# Altium footprint library con-phoenix-smkdsp.PCBLIB: 14 footprints
Each footprint in its own frame and in the unit in brackets; x right, y up, seen from the top. Pads: shape width x height; smd on the part's side, far side on the other; paste and mask are expansions set on the pad; w line width, h text height; cw(c..) or ccw(c..) is an arc to the next point about the centre after c.
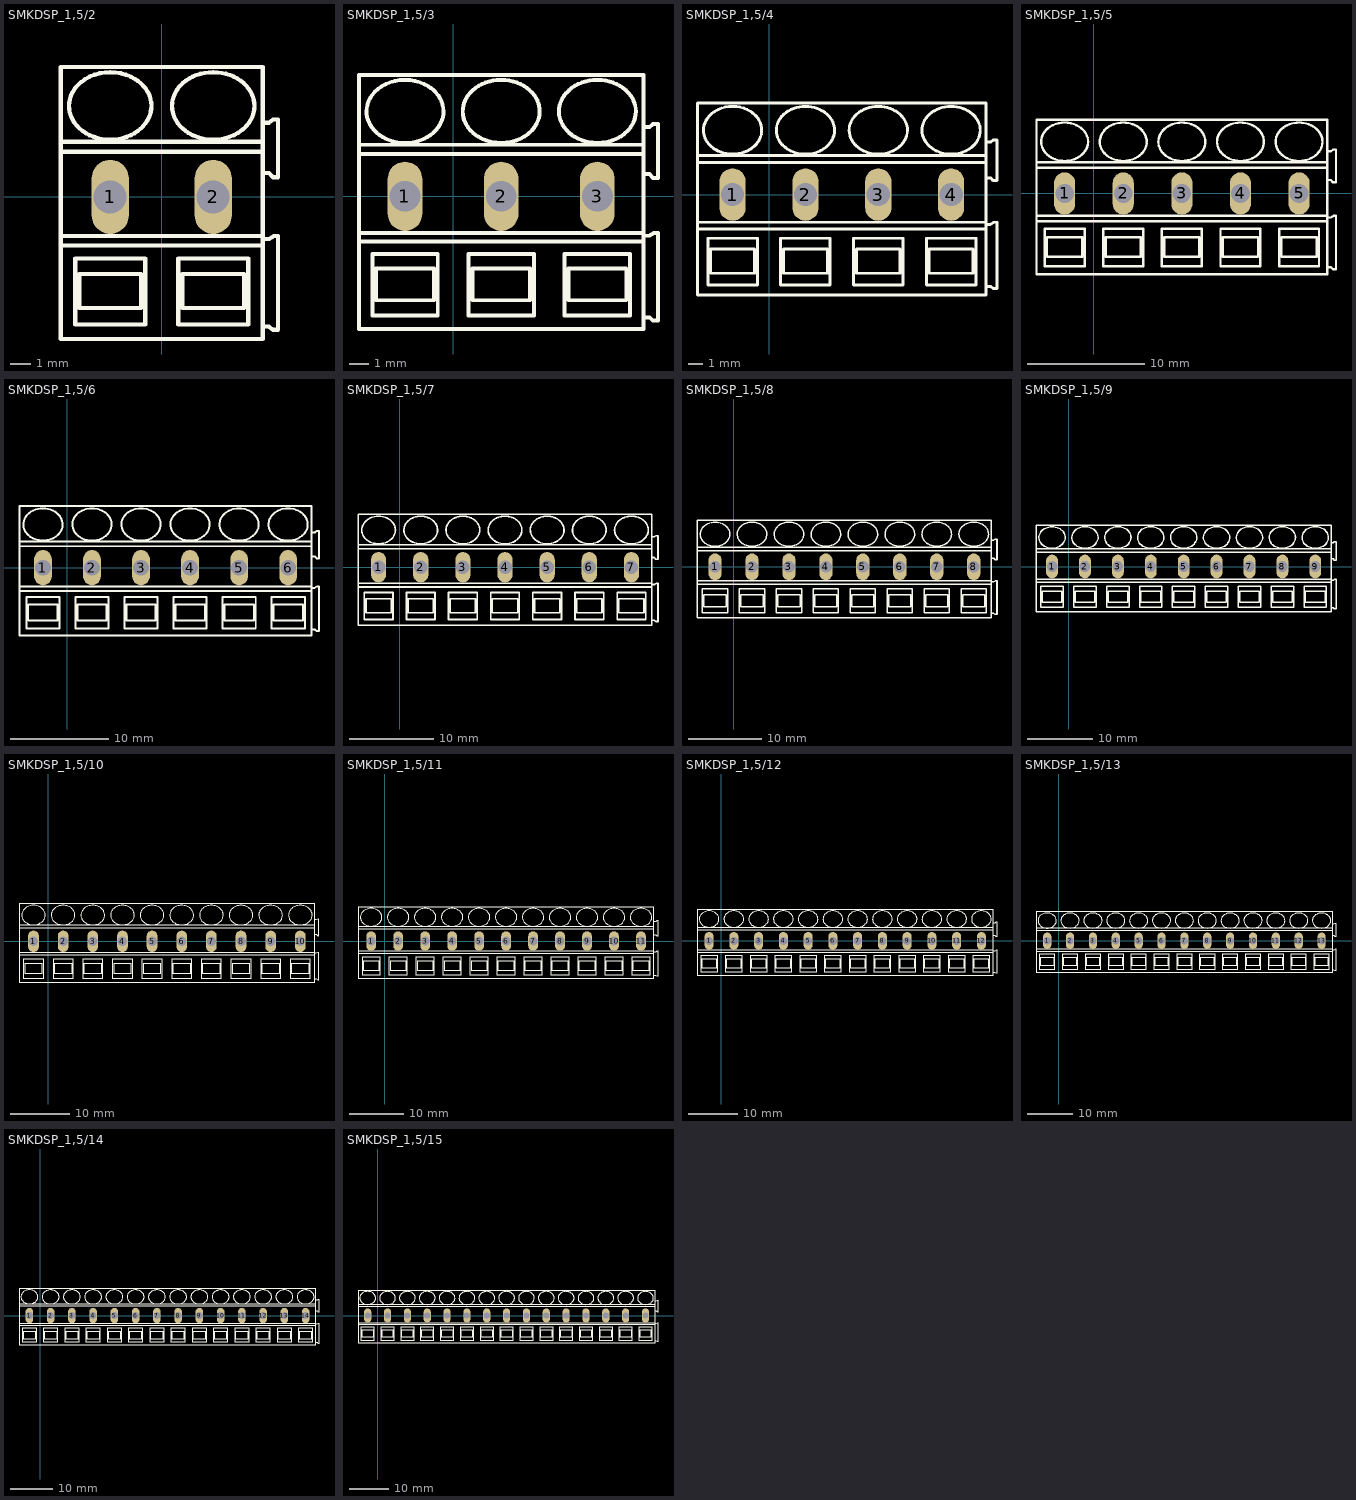
[diagram p0: the footprints below, top view; thin cyan lines are the x and y axes]

## SMKDSP_1,5/2 [mm]
pads (2):
  oval 1.8x3.6 hole 1.6: 1(-2.5,0) 2(2.5,0)
Top Overlay:
  lines w0.203: 5,-6.3 5.2,-6.3 5.4,-6.45 5.65,-6.45 5.65,-1.9 5.45,-1.9 5.2,-2.05 5,-2.05 ; 5,1.15 5.2,1.15 5.4,0.95 5.65,0.95 5.65,3.75 5.4,3.75 5.2,3.6 5,3.6 ; -4.9,-2.354 4.9,-2.354 ; -4.9,-2.354 -4.9,-1.902 ; -4.9,-2.354 -4.9,-6.9 4.9,-6.9 4.9,-2.354 ; -4.9,-1.902 4.9,-1.902 ; -4.9,-1.902 -4.9,2.192 ; -4.9,2.192 4.9,2.192 ; -4.9,2.192 -4.9,2.678 ; -4.9,2.678 4.9,2.678 ; -4.9,2.678 -4.9,6.3 4.9,6.3 4.9,2.678 ; 4.9,-2.354 4.9,-1.902 ; 4.9,-1.902 4.9,2.192 ; 4.9,2.192 4.9,2.678 ; -4.5,4.414 cw(c-3.14,4.411) -4.456,4.754 cw(c-3.05,4.385) -4.327,5.079 cw(c-2.735,4.176) -4.086,5.411 cw(c-2.711,4.108) -3.718,5.713 cw(c-2.568,3.869) -3.265,5.927 cw(c-2.506,3.674) -2.761,6.038 cw(c-2.5,3.609) -2.239,6.038 cw(c-2.488,3.699) -1.735,5.927 cw(c-2.413,3.909) -1.282,5.713 cw(c-2.258,4.146) -0.914,5.411 cw(c-1.944,4.409) -0.673,5.079 cw(c-1.929,4.394) -0.544,4.754 cw(c-1.859,4.413) -0.5,4.414 cw(c-1.853,4.414) -0.531,4.129 cw(c-1.918,4.43) -0.621,3.854 cw(c-2.027,4.481) -0.768,3.594 cw(c-2.167,4.588) -1.014,3.317 cw(c-2.318,4.762) -1.324,3.088 cw(c-2.428,4.953) -1.687,2.917 cw(c-2.485,5.115) -2.084,2.811 cw(c-2.5,5.215) -2.5,2.775 cw(c-2.501,5.195) -2.916,2.811 cw(c-2.52,5.095) -3.313,2.917 cw(c-2.587,4.921) -3.676,3.088 cw(c-2.706,4.728) -3.986,3.317 cw(c-2.854,4.569) -4.232,3.594 cw(c-2.999,4.469) -4.379,3.854 cw(c-3.096,4.426) -4.469,4.129 cw(c-3.147,4.416) -4.5,4.414 ; -4.2,-6.2 -0.8,-6.2 -0.8,-3 -4.2,-3 -4.2,-6.2 ; -4,-5.4 -1,-5.4 -1,-3.75 -4,-3.75 -4,-5.4 ; 0.5,4.414 cw(c1.854,4.413) 0.531,4.698 cw(c1.918,4.397) 0.621,4.974 cw(c2.026,4.346) 0.768,5.233 cw(c2.167,4.239) 1.014,5.51 cw(c2.318,4.065) 1.324,5.739 cw(c2.428,3.874) 1.687,5.91 cw(c2.485,3.712) 2.084,6.016 cw(c2.5,3.61) 2.5,6.052 cw(c2.501,3.631) 2.916,6.016 cw(c2.52,3.732) 3.313,5.91 cw(c2.587,3.906) 3.676,5.739 cw(c2.706,4.099) 3.986,5.51 cw(c2.854,4.258) 4.232,5.233 cw(c2.999,4.36) 4.379,4.974 cw(c3.096,4.402) 4.469,4.698 cw(c3.145,4.411) 4.5,4.414 cw(c3.14,4.416) 4.456,4.073 cw(c3.049,4.442) 4.327,3.748 cw(c2.734,4.652) 4.086,3.416 cw(c2.711,4.718) 3.718,3.114 cw(c2.57,4.958) 3.265,2.9 cw(c2.506,5.154) 2.761,2.789 cw(c2.5,5.218) 2.239,2.789 cw(c2.488,5.128) 1.735,2.9 cw(c2.412,4.919) 1.282,3.114 cw(c2.258,4.681) 0.914,3.416 cw(c1.945,4.418) 0.673,3.748 cw(c1.93,4.433) 0.544,4.073 cw(c1.858,4.414) 0.5,4.414 ; 0.8,-6.2 4.2,-6.2 4.2,-3 0.8,-3 0.8,-6.2 ; 1,-5.4 1,-5.15 1,-3.75 4,-3.75 4,-5.4 1,-5.4

## SMKDSP_1,5/3 [mm]
pads (3):
  oval 1.8x3.6 hole 1.6: 1(-2.5,0) 2(2.5,0) 3(7.5,0)
Top Overlay:
  lines w0.203: 10,-6.3 10.2,-6.3 10.4,-6.45 10.65,-6.45 10.65,-1.9 10.45,-1.9 10.2,-2.05 10,-2.05 ; 10,1.15 10.2,1.15 10.4,0.95 10.65,0.95 10.65,3.75 10.4,3.75 10.2,3.6 10,3.6 ; -4.9,-2.354 9.9,-2.354 ; -4.9,-2.354 -4.9,-1.902 ; -4.9,-2.354 -4.9,-6.9 9.9,-6.9 9.9,-2.354 ; -4.9,-1.902 9.9,-1.902 ; -4.9,-1.902 -4.9,2.192 ; -4.9,2.192 9.9,2.192 ; -4.9,2.192 -4.9,2.678 ; -4.9,2.678 9.9,2.678 ; -4.9,2.678 -4.9,6.3 9.9,6.3 9.9,2.678 ; 9.9,-2.354 9.9,-1.902 ; 9.9,-1.902 9.9,2.192 ; 9.9,2.192 9.9,2.678 ; -4.5,4.414 cw(c-3.14,4.411) -4.456,4.754 cw(c-3.05,4.385) -4.327,5.079 cw(c-2.735,4.176) -4.086,5.411 cw(c-2.711,4.108) -3.718,5.713 cw(c-2.568,3.869) -3.265,5.927 cw(c-2.506,3.674) -2.761,6.038 cw(c-2.5,3.609) -2.239,6.038 cw(c-2.488,3.699) -1.735,5.927 cw(c-2.413,3.909) -1.282,5.713 cw(c-2.258,4.146) -0.914,5.411 cw(c-1.944,4.409) -0.673,5.079 cw(c-1.929,4.394) -0.544,4.754 cw(c-1.859,4.413) -0.5,4.414 cw(c-1.853,4.414) -0.531,4.129 cw(c-1.918,4.43) -0.621,3.854 cw(c-2.027,4.481) -0.768,3.594 cw(c-2.167,4.588) -1.014,3.317 cw(c-2.318,4.762) -1.324,3.088 cw(c-2.428,4.953) -1.687,2.917 cw(c-2.485,5.115) -2.084,2.811 cw(c-2.5,5.215) -2.5,2.775 cw(c-2.501,5.195) -2.916,2.811 cw(c-2.52,5.095) -3.313,2.917 cw(c-2.587,4.921) -3.676,3.088 cw(c-2.706,4.728) -3.986,3.317 cw(c-2.854,4.569) -4.232,3.594 cw(c-2.999,4.469) -4.379,3.854 cw(c-3.096,4.426) -4.469,4.129 cw(c-3.147,4.416) -4.5,4.414 ; -4.2,-6.2 -0.8,-6.2 -0.8,-3 -4.2,-3 -4.2,-6.2 ; -4,-5.4 -1,-5.4 -1,-3.75 -4,-3.75 -4,-5.4 ; 0.5,4.414 cw(c1.854,4.413) 0.531,4.698 cw(c1.918,4.397) 0.621,4.974 cw(c2.026,4.346) 0.768,5.233 cw(c2.167,4.239) 1.014,5.51 cw(c2.318,4.065) 1.324,5.739 cw(c2.428,3.874) 1.687,5.91 cw(c2.485,3.712) 2.084,6.016 cw(c2.5,3.61) 2.5,6.052 cw(c2.501,3.631) 2.916,6.016 cw(c2.52,3.732) 3.313,5.91 cw(c2.587,3.906) 3.676,5.739 cw(c2.706,4.099) 3.986,5.51 cw(c2.854,4.258) 4.232,5.233 cw(c2.999,4.36) 4.379,4.974 cw(c3.096,4.402) 4.469,4.698 cw(c3.145,4.411) 4.5,4.414 cw(c3.14,4.416) 4.456,4.073 cw(c3.049,4.442) 4.327,3.748 cw(c2.734,4.652) 4.086,3.416 cw(c2.711,4.718) 3.718,3.114 cw(c2.57,4.958) 3.265,2.9 cw(c2.506,5.154) 2.761,2.789 cw(c2.5,5.218) 2.239,2.789 cw(c2.488,5.128) 1.735,2.9 cw(c2.412,4.919) 1.282,3.114 cw(c2.258,4.681) 0.914,3.416 cw(c1.945,4.418) 0.673,3.748 cw(c1.93,4.433) 0.544,4.073 cw(c1.858,4.414) 0.5,4.414 ; 0.8,-6.2 4.2,-6.2 4.2,-3 0.8,-3 0.8,-6.2 ; 1,-5.4 1,-5.15 1,-3.75 4,-3.75 4,-5.4 1,-5.4 ; 5.5,4.414 cw(c6.854,4.413) 5.531,4.698 cw(c6.918,4.397) 5.621,4.974 cw(c7.026,4.346) 5.768,5.233 cw(c7.167,4.239) 6.014,5.51 cw(c7.318,4.065) 6.324,5.739 cw(c7.428,3.874) 6.687,5.91 cw(c7.485,3.712) 7.084,6.016 cw(c7.5,3.61) 7.5,6.052 cw(c7.501,3.631) 7.916,6.016 cw(c7.52,3.732) 8.313,5.91 cw(c7.587,3.906) 8.676,5.739 cw(c7.706,4.099) 8.986,5.51 cw(c7.854,4.258) 9.232,5.233 cw(c7.999,4.36) 9.379,4.974 cw(c8.096,4.401) 9.47,4.698 cw(c8.145,4.413) 9.5,4.414 cw(c8.14,4.416) 9.456,4.073 cw(c8.049,4.442) 9.327,3.748 cw(c7.734,4.652) 9.086,3.416 cw(c7.711,4.718) 8.718,3.114 cw(c7.57,4.958) 8.265,2.9 cw(c7.506,5.154) 7.761,2.789 cw(c7.5,5.218) 7.238,2.789 cw(c7.488,5.128) 6.735,2.9 cw(c7.412,4.919) 6.282,3.114 cw(c7.258,4.681) 5.914,3.416 cw(c6.945,4.418) 5.673,3.748 cw(c6.93,4.433) 5.544,4.073 cw(c6.858,4.414) 5.5,4.414 ; 5.8,-6.2 9.2,-6.2 9.2,-3 5.8,-3 5.8,-6.2 ; 6,-5.4 6,-5.15 6,-3.75 9,-3.75 9,-5.4 6,-5.4

## SMKDSP_1,5/4 [mm]
pads (4):
  oval 1.8x3.6 hole 1.6: 1(-2.5,0) 2(2.5,0) 3(7.5,0) 4(12.5,0)
Top Overlay:
  drawing of 181 lines, arcs and shapes, not listed

## SMKDSP_1,5/5 [mm]
pads (5):
  oval 1.8x3.6 hole 1.6: 1(-2.5,0) 2(2.5,0) 3(7.5,0) 4(12.5,0) 5(17.5,0)
Top Overlay:
  drawing of 219 lines, arcs and shapes, not listed

## SMKDSP_1,5/6 [mm]
pads (6):
  oval 1.8x3.6 hole 1.6: 1(-2.5,0) 2(2.5,0) 3(7.5,0) 4(12.5,0) 5(17.5,0) 6(22.5,0)
Top Overlay:
  drawing of 257 lines, arcs and shapes, not listed

## SMKDSP_1,5/7 [mm]
pads (7):
  oval 1.8x3.6 hole 1.6: 1(-2.5,0) 2(2.5,0) 3(7.5,0) 4(12.5,0) 5(17.5,0) 6(22.5,0) 7(27.5,0)
Top Overlay:
  drawing of 295 lines, arcs and shapes, not listed

## SMKDSP_1,5/8 [mm]
pads (8):
  oval 1.8x3.6 hole 1.6: 1(-2.5,0) 2(2.5,0) 3(7.5,0) 4(12.5,0) 5(17.5,0) 6(22.5,0) 7(27.5,0) 8(32.5,0)
Top Overlay:
  drawing of 333 lines, arcs and shapes, not listed

## SMKDSP_1,5/9 [mm]
pads (9):
  oval 1.8x3.6 hole 1.6: 1(-2.5,0) 2(2.5,0) 3(7.5,0) 4(12.5,0) 5(17.5,0) 6(22.5,0) 7(27.5,0) 8(32.5,0) 9(37.5,0)
Top Overlay:
  drawing of 371 lines, arcs and shapes, not listed

## SMKDSP_1,5/10 [mm]
pads (10):
  oval 1.8x3.6 hole 1.6: 1(-2.5,0) 2(2.5,0) 3(7.5,0) 4(12.5,0) 5(17.5,0) 6(22.5,0) 7(27.5,0) 8(32.5,0) 9(37.5,0) 10(42.5,0)
Top Overlay:
  drawing of 409 lines, arcs and shapes, not listed

## SMKDSP_1,5/11 [mm]
pads (11):
  oval 1.8x3.6 hole 1.6: 1(-2.5,0) 2(2.5,0) 3(7.5,0) 4(12.5,0) 5(17.5,0) 6(22.5,0) 7(27.5,0) 8(32.5,0) 9(37.5,0) 10(42.5,0) 11(47.5,0)
Top Overlay:
  drawing of 447 lines, arcs and shapes, not listed

## SMKDSP_1,5/12 [mm]
pads (12):
  oval 1.8x3.6 hole 1.6: 1(-2.5,0) 2(2.5,0) 3(7.5,0) 4(12.5,0) 5(17.5,0) 6(22.5,0) 7(27.5,0) 8(32.5,0) 9(37.5,0) 10(42.5,0) 11(47.5,0) 12(52.5,0)
Top Overlay:
  drawing of 485 lines, arcs and shapes, not listed

## SMKDSP_1,5/13 [mm]
pads (13):
  oval 1.8x3.6 hole 1.6: 1(-2.5,0) 2(2.5,0) 3(7.5,0) 4(12.5,0) 5(17.5,0) 6(22.5,0) 7(27.5,0) 8(32.5,0) 9(37.5,0) 10(42.5,0) 11(47.5,0) 12(52.5,0) 13(57.5,0)
Top Overlay:
  drawing of 523 lines, arcs and shapes, not listed

## SMKDSP_1,5/14 [mm]
pads (14):
  oval 1.8x3.6 hole 1.6: 1(-2.5,0) 2(2.5,0) 3(7.5,0) 4(12.5,0) 5(17.5,0) 6(22.5,0) 7(27.5,0) 8(32.5,0) 9(37.5,0) 10(42.5,0) 11(47.5,0) 12(52.5,0) 13(57.5,0) 14(62.5,0)
Top Overlay:
  drawing of 561 lines, arcs and shapes, not listed

## SMKDSP_1,5/15 [mm]
pads (15):
  oval 1.8x3.6 hole 1.6: 1(-2.5,0) 2(2.5,0) 3(7.5,0) 4(12.5,0) 5(17.5,0) 6(22.5,0) 7(27.5,0) 8(32.5,0) 9(37.5,0) 10(42.5,0) 11(47.5,0) 12(52.5,0) 13(57.5,0) 14(62.5,0) 15(67.5,0)
Top Overlay:
  drawing of 599 lines, arcs and shapes, not listed